# Altium footprint library maxim.PCBLIB: 63 footprints (part 3 of 4)
Each footprint in its own frame and in the unit in brackets; x right, y up, seen from the top. Pads: shape width x height; smd on the part's side, far side on the other; paste and mask are expansions set on the pad; w line width, h text height; cw(c..) or ccw(c..) is an arc to the next point about the centre after c.
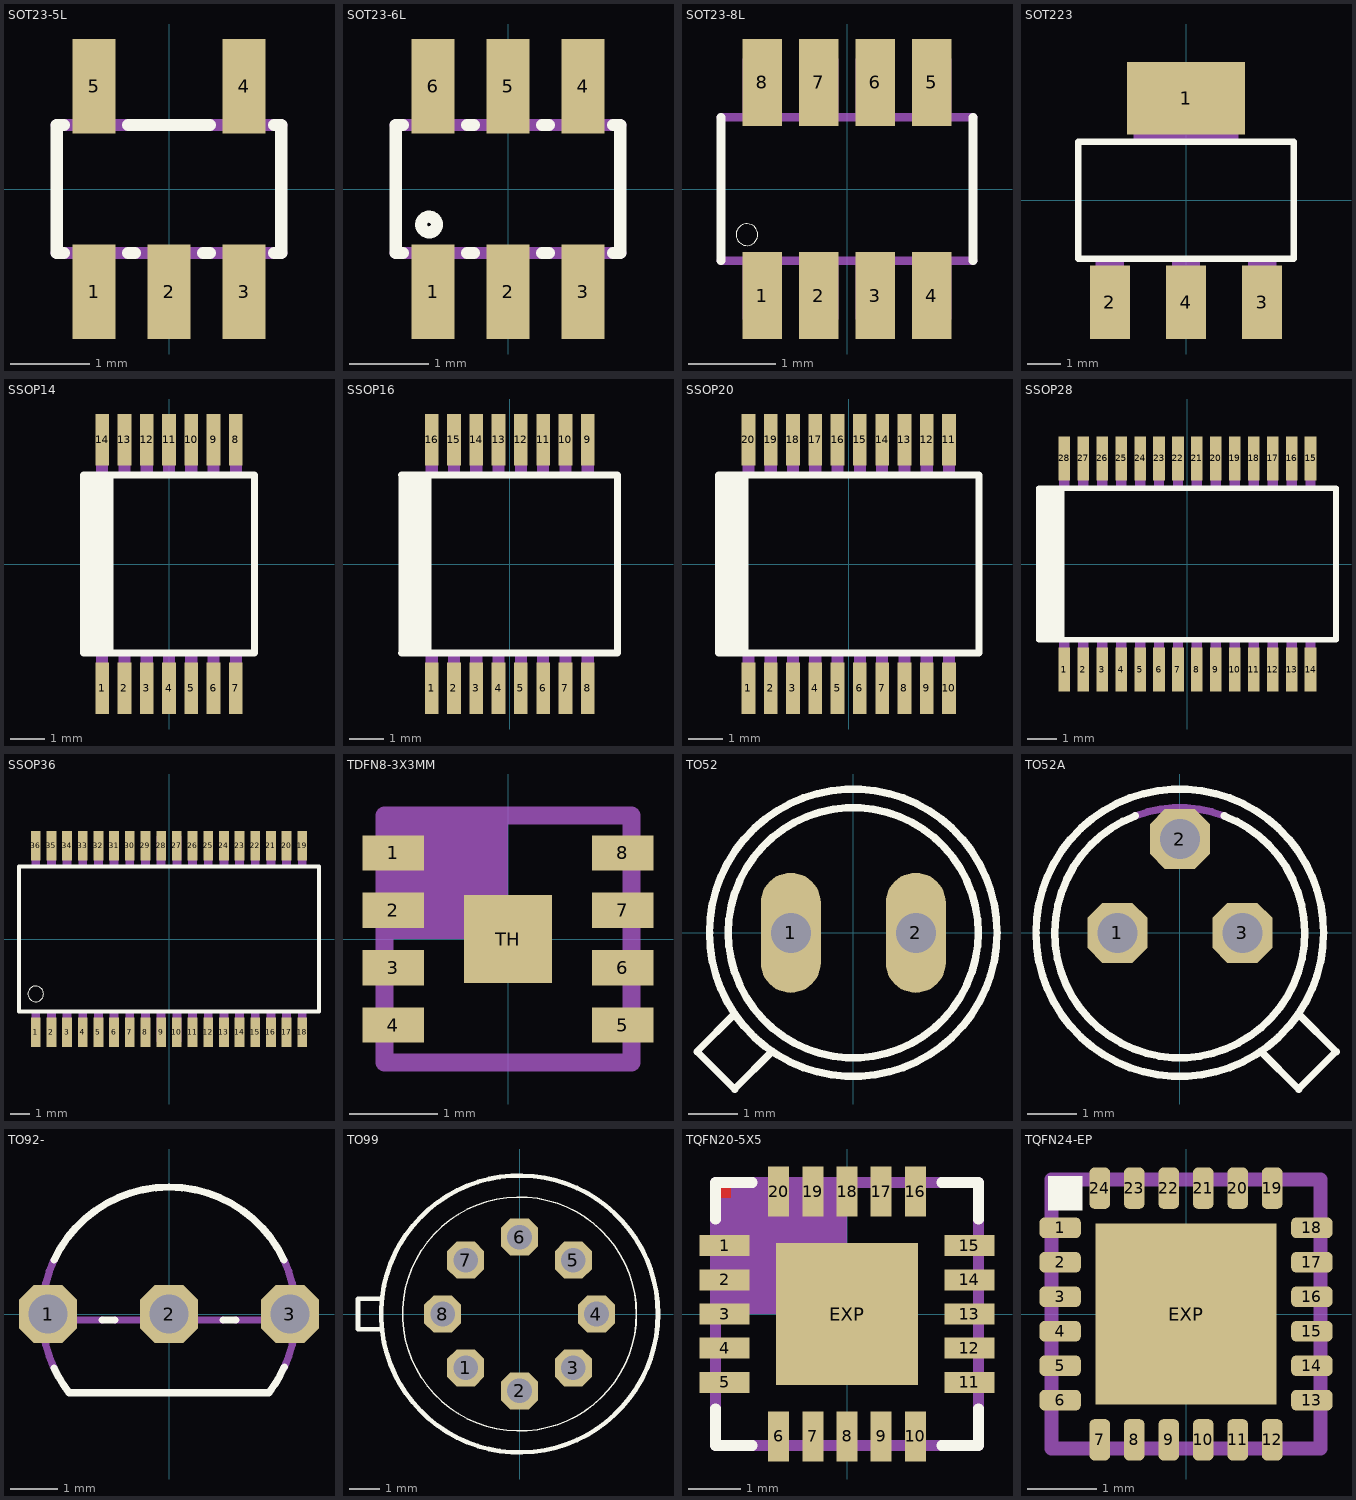
[diagram p2: the footprints below, top view; thin cyan lines are the x and y axes]

## SOT23-5L [mil]
pads (5):
  rect 21.65x47.24 smd: 1(-37.4,-51.18) 2(0,-51.18) 3(37.4,-51.18) 4(37.4,51.18) 5(-37.4,51.18)
Top Overlay:
  lines w6: -52.28,-31.89 -55.98,-31.89 -55.98,31.89 -52.28,31.89 ; -20.55,-31.89 -16.85,-31.89 ; -20.55,31.89 20.55,31.89 ; 16.85,-31.89 20.55,-31.89 ; 52.28,-31.89 55.98,-31.89 55.98,31.89 52.28,31.89
Mechanical 16:
  rectangle: -47.24,-59.06 -27.56,-33.46
  rectangle: -9.84,-59.06 9.84,-33.46
  rectangle: 27.56,-59.06 47.24,-33.46
  rectangle: 27.56,33.46 47.24,59.06
  rectangle: -47.24,33.46 -27.56,59.06
  lines w6: -55.98,-31.89 55.98,-31.89 ; -55.98,31.89 55.98,31.89

## SOT23-6L [mil]
pads (6):
  rect 21.65x47.24 smd: 1(-37.4,-51.18) 2(0,-51.18) 3(37.4,-51.18) 4(37.4,51.18) 5(0,51.18) 6(-37.4,51.18)
Top Overlay:
  circle w6: c-39.37,-17.72 r3.94
  lines w6: -52.28,-31.89 -55.98,-31.89 -55.98,31.89 -52.28,31.89 ; -20.55,-31.89 -16.85,-31.89 ; -20.55,31.89 -16.85,31.89 ; 16.85,-31.89 20.55,-31.89 ; 16.85,31.89 20.55,31.89 ; 52.28,-31.89 55.98,-31.89 55.98,31.89 52.28,31.89
Mechanical 16:
  rectangle: -47.24,-59.06 -27.56,-33.46
  rectangle: -9.84,-59.06 9.84,-33.46
  rectangle: 27.56,-59.06 47.24,-33.46
  rectangle: 27.56,33.46 47.24,59.06
  rectangle: -9.84,33.46 9.84,59.06
  rectangle: -47.24,33.46 -27.56,59.06
  lines w6: -55.98,-31.89 55.98,-31.89 ; -55.98,31.89 55.98,31.89

## SOT23-8L [mm]
pads (8):
  rect 0.45x1 smd: 1(-0.975,-1.225) 2(-0.325,-1.225) 3(0.325,-1.225) 4(0.975,-1.225) 5(0.975,1.225) 6(0.325,1.225) 7(-0.325,1.225) 8(-0.975,1.225)
Top Overlay:
  circle w0: c-1.15,-0.525 r0.125
  lines w0.102: -1.45,-0.825 -1.45,0.825 ; 1.45,-0.825 1.45,0.825
Mechanical 16:
  rectangle: -1.2,-1.5 -0.75,-0.85
  rectangle: -0.55,-1.5 -0.1,-0.85
  rectangle: 0.1,-1.5 0.55,-0.85
  rectangle: 0.75,-1.5 1.2,-0.85
  region: 1.2,1.5 0.75,1.5 0.75,0.85 1.2,0.85
  region: 0.55,1.5 0.1,1.5 0.1,0.85 0.55,0.85
  region: -0.1,1.5 -0.55,1.5 -0.55,0.85 -0.1,0.85
  region: -0.75,1.5 -1.2,1.5 -1.2,0.85 -0.75,0.85
  lines w0.102: -1.45,-0.825 1.45,-0.825 ; -1.45,0.825 1.45,0.825

## SOT223 [mil]
pads (4):
  rect 141.73x86.61 smd: 1(0,122.01)
  rect 47.99x87.99 smd: 2(-90.98,-122.01) 3(90.98,-122.01) 4(0,-122.01)
Top Overlay:
  lines w8: -129.02,-70 129.02,-70 129.02,70 -129.02,70 -129.02,-70
Mechanical 16:
  rectangle: -63,71 63,144
  rectangle: -17,-144 17,-71
  rectangle: -108,-144 -74,-71
  rectangle: 74,-144 108,-71
  rectangle: -63,71 63,144
  rectangle: -17,-144 17,-71
  rectangle: -108,-144 -74,-71
  rectangle: 74,-144 108,-71

## SSOP14 [mm]
pads (14):
  rect 0.4x1.5 smd: 1(-1.95,-3.625) 2(-1.3,-3.625) 3(-0.65,-3.625) 4(0,-3.625) 5(0.65,-3.625) 6(1.3,-3.625) 7(1.95,-3.625) 8(1.95,3.625) 9(1.3,3.625) 10(0.65,3.625) 11(0,3.625) 12(-0.65,3.625) 13(-1.3,3.625) 14(-1.95,3.625)
Top Overlay:
  rectangle: -2.6,-2.6 -1.625,2.6
  lines w0.203: -2.5,-2.6 2.5,-2.6 2.5,2.6 -2.5,2.6
Mechanical 16:
  rectangle: -2.128,-3.937 -1.772,-2.642
  rectangle: -1.478,-3.937 -1.122,-2.642
  rectangle: -0.828,-3.937 -0.472,-2.642
  rectangle: -0.178,-3.937 0.178,-2.642
  rectangle: 0.472,-3.937 0.828,-2.642
  rectangle: 1.122,-3.937 1.478,-2.642
  rectangle: 1.772,-3.937 2.128,-2.642
  rectangle: 1.772,2.642 2.128,3.937
  rectangle: 1.122,2.642 1.478,3.937
  rectangle: 0.472,2.642 0.828,3.937
  rectangle: -0.178,2.642 0.178,3.937
  rectangle: -0.828,2.642 -0.472,3.937
  rectangle: -1.478,2.642 -1.122,3.937
  rectangle: -2.128,2.642 -1.772,3.937

## SSOP16 [mil]
pads (16):
  rect 15.75x59.06 smd: 1(-89.57,-142.72) 2(-63.98,-142.72) 3(-38.39,-142.72) 4(-12.8,-142.72) 5(12.8,-142.72) 6(38.39,-142.72) 7(63.98,-142.72) 8(89.57,-142.72) 9(89.57,142.72) 10(63.98,142.72) 11(38.39,142.72) 12(12.8,142.72) 13(-12.8,142.72) 14(-38.39,142.72) 15(-63.98,142.72) 16(-89.57,142.72)
Top Overlay:
  rectangle: -127.95,-102.36 -89.57,102.36
  lines w8: -124.02,-102.36 124.02,-102.36 124.02,102.36 -124.02,102.36
Mechanical 16:
  rectangle: -96.57,-155 -82.57,-104
  rectangle: -70.98,-155 -56.98,-104
  rectangle: -45.39,-155 -31.39,-104
  rectangle: -19.8,-155 -5.8,-104
  rectangle: 5.79,-155 19.79,-104
  rectangle: 31.38,-155 45.38,-104
  rectangle: 56.97,-155 70.97,-104
  rectangle: 82.57,-155 96.57,-104
  rectangle: 82.56,104 96.56,155
  rectangle: 56.97,104 70.97,155
  rectangle: 31.38,104 45.38,155
  rectangle: 5.79,104 19.79,155
  rectangle: -19.8,104 -5.8,155
  rectangle: -45.39,104 -31.39,155
  rectangle: -70.98,104 -56.98,155
  rectangle: -96.56,104 -82.56,155

## SSOP20 [mil]
pads (20):
  rect 15.75x59.06 smd: 1(-115.16,-142.72) 2(-89.57,-142.72) 3(-63.98,-142.72) 4(-38.39,-142.72) 5(-12.8,-142.72) 6(12.8,-142.72) 7(38.39,-142.72) 8(63.98,-142.72) 9(89.57,-142.72) 10(115.16,-142.72) 11(115.16,142.72) 12(89.57,142.72) 13(63.98,142.72) 14(38.39,142.72) 15(12.8,142.72) 16(-12.8,142.72) 17(-38.39,142.72) 18(-63.98,142.72) 19(-89.57,142.72) 20(-115.16,142.72)
Top Overlay:
  rectangle: -153.54,-102.36 -115.16,102.36
  lines w8: -149.61,-102.36 149.61,-102.36 149.61,102.36 -149.61,102.36
Mechanical 16:
  rectangle: -122.16,-155 -108.16,-104
  rectangle: -96.57,-155 -82.57,-104
  rectangle: -70.98,-155 -56.98,-104
  rectangle: -45.39,-155 -31.39,-104
  rectangle: -19.8,-155 -5.8,-104
  rectangle: 5.79,-155 19.79,-104
  rectangle: 31.38,-155 45.38,-104
  rectangle: 56.98,-155 70.98,-104
  rectangle: 82.57,-155 96.57,-104
  rectangle: 108.16,-155 122.16,-104
  rectangle: 108.15,104 122.15,155
  rectangle: 82.56,104 96.56,155
  rectangle: 56.97,104 70.97,155
  rectangle: 31.39,104 45.39,155
  rectangle: 5.8,104 19.8,155
  rectangle: -19.79,104 -5.79,155
  rectangle: -45.38,104 -31.38,155
  rectangle: -70.97,104 -56.97,155
  rectangle: -96.56,104 -82.56,155
  rectangle: -122.15,104 -108.15,155

## SSOP28 [mil]
pads (28):
  rect 15.75x59.06 smd: 1(-166.34,-142.72) 2(-140.75,-142.72) 3(-115.16,-142.72) 4(-89.57,-142.72) 5(-63.98,-142.72) 6(-38.39,-142.72) 7(-12.8,-142.72) 8(12.8,-142.72) 9(38.39,-142.72) 10(63.98,-142.72) 11(89.57,-142.72) 12(115.16,-142.72) 13(140.75,-142.72) 14(166.34,-142.72) 15(166.34,142.72) 16(140.75,142.72) 17(115.16,142.72) 18(89.57,142.72) 19(63.98,142.72) 20(38.39,142.72) 21(12.8,142.72) 22(-12.8,142.72) 23(-38.39,142.72) 24(-63.98,142.72) 25(-89.57,142.72) 26(-115.16,142.72) 27(-140.75,142.72) 28(-166.34,142.72)
Top Overlay:
  rectangle: -204.72,-102.36 -166.34,102.36
  lines w8: -200.79,-102.36 200.79,-102.36 200.79,102.36 -200.79,102.36
Mechanical 16:
  rectangle: -173.34,-155 -159.34,-104
  rectangle: -147.75,-155 -133.75,-104
  rectangle: -122.16,-155 -108.16,-104
  rectangle: -96.57,-155 -82.57,-104
  rectangle: -70.98,-155 -56.98,-104
  rectangle: -45.39,-155 -31.39,-104
  rectangle: -19.8,-155 -5.8,-104
  rectangle: 5.8,-155 19.8,-104
  rectangle: 31.39,-155 45.39,-104
  rectangle: 56.98,-155 70.98,-104
  rectangle: 82.57,-155 96.57,-104
  rectangle: 108.16,-155 122.16,-104
  rectangle: 133.75,-155 147.75,-104
  rectangle: 159.34,-155 173.34,-104
  rectangle: 159.34,104 173.34,155
  rectangle: 133.75,104 147.75,155
  rectangle: 108.16,104 122.16,155
  rectangle: 82.57,104 96.57,155
  rectangle: 56.98,104 70.98,155
  rectangle: 31.39,104 45.39,155
  rectangle: 5.8,104 19.8,155
  rectangle: -19.8,104 -5.8,155
  rectangle: -45.39,104 -31.39,155
  rectangle: -70.98,104 -56.98,155
  rectangle: -96.57,104 -82.57,155
  rectangle: -122.16,104 -108.16,155
  rectangle: -147.75,104 -133.75,155
  rectangle: -173.34,104 -159.34,155

## SSOP36 [mm]
pads (36):
  rect 0.5x1.5 smd: 1(-6.8,-4.75) 2(-6,-4.75) 3(-5.2,-4.75) 4(-4.4,-4.75) 5(-3.6,-4.75) 6(-2.8,-4.75) 7(-2,-4.75) 8(-1.2,-4.75) 9(-0.4,-4.75) 10(0.4,-4.75) 11(1.2,-4.75) 12(2,-4.75) 13(2.8,-4.75) 14(3.6,-4.75) 15(4.4,-4.75) 16(5.2,-4.75) 17(6,-4.75) 18(6.8,-4.75) 19(6.8,4.75) 20(6,4.75) 21(5.2,4.75) 22(4.4,4.75) 23(3.6,4.75) 24(2.8,4.75) 25(2,4.75) 26(1.2,4.75) 27(0.4,4.75) 28(-0.4,4.75) 29(-1.2,4.75) 30(-2,4.75) 31(-2.8,4.75) 32(-3.6,4.75) 33(-4.4,4.75) 34(-5.2,4.75) 35(-6,4.75) 36(-6.8,4.75)
Top Overlay:
  circle w0: c-6.8,-2.8 r0.4
  lines w0.203: -7.65,-3.7 7.65,-3.7 7.65,3.7 -7.65,3.7 -7.65,-3.7
Mechanical 16:
  rectangle: -7.025,-5.25 -6.575,-3.775
  rectangle: -6.225,-5.25 -5.775,-3.775
  rectangle: -5.425,-5.25 -4.975,-3.775
  rectangle: -4.625,-5.25 -4.175,-3.775
  rectangle: -3.825,-5.25 -3.375,-3.775
  rectangle: -3.025,-5.25 -2.575,-3.775
  rectangle: -2.225,-5.25 -1.775,-3.775
  rectangle: -1.425,-5.25 -0.975,-3.775
  rectangle: -0.625,-5.25 -0.175,-3.775
  rectangle: 0.175,-5.25 0.625,-3.775
  rectangle: 0.975,-5.25 1.425,-3.775
  rectangle: 1.775,-5.25 2.225,-3.775
  rectangle: 2.575,-5.25 3.025,-3.775
  rectangle: 3.375,-5.25 3.825,-3.775
  rectangle: 4.175,-5.25 4.625,-3.775
  rectangle: 4.975,-5.25 5.425,-3.775
  rectangle: 5.775,-5.25 6.225,-3.775
  rectangle: 6.575,-5.25 7.025,-3.775
  region: 7.025,5.25 6.575,5.25 6.575,3.775 7.025,3.775
  region: 6.225,5.25 5.775,5.25 5.775,3.775 6.225,3.775
  region: 5.425,5.25 4.975,5.25 4.975,3.775 5.425,3.775
  region: 4.625,5.25 4.175,5.25 4.175,3.775 4.625,3.775
  region: 3.825,5.25 3.375,5.25 3.375,3.775 3.825,3.775
  region: 3.025,5.25 2.575,5.25 2.575,3.775 3.025,3.775
  region: 2.225,5.25 1.775,5.25 1.775,3.775 2.225,3.775
  region: 1.425,5.25 0.975,5.25 0.975,3.775 1.425,3.775
  region: 0.625,5.25 0.175,5.25 0.175,3.775 0.625,3.775
  region: -0.175,5.25 -0.625,5.25 -0.625,3.775 -0.175,3.775
  region: -0.975,5.25 -1.425,5.25 -1.425,3.775 -0.975,3.775
  region: -1.775,5.25 -2.225,5.25 -2.225,3.775 -1.775,3.775
  region: -2.575,5.25 -3.025,5.25 -3.025,3.775 -2.575,3.775
  region: -3.375,5.25 -3.825,5.25 -3.825,3.775 -3.375,3.775
  region: -4.175,5.25 -4.625,5.25 -4.625,3.775 -4.175,3.775
  region: -4.975,5.25 -5.425,5.25 -5.425,3.775 -4.975,3.775
  region: -5.775,5.25 -6.225,5.25 -6.225,3.775 -5.775,3.775
  region: -6.575,5.25 -7.025,5.25 -7.025,3.775 -6.575,3.775

## TDFN8-3X3MM [mm]
pads (9):
  rect 0.7x0.4 smd: 1(-1.3,0.975) 2(-1.3,0.325) 3(-1.3,-0.325) 4(-1.3,-0.975) 5(1.3,-0.975) 6(1.3,-0.325) 7(1.3,0.325) 8(1.3,0.975)
  rect 1x1 smd: TH(0,0)
Top Layer:
  region: 0,0 0.254,0 0.254,0.254 0,0.254
Top Paste:
  rectangle: -1.5,0.825 -1.1,1.125
  rectangle: -1.5,0.175 -1.1,0.475
  rectangle: -1.5,-0.475 -1.1,-0.175
  rectangle: -1.5,-1.125 -1.1,-0.825
  region: 1.5,-0.825 1.1,-0.825 1.1,-1.125 1.5,-1.125
  region: 1.5,-0.175 1.1,-0.175 1.1,-0.475 1.5,-0.475
  region: 1.5,0.475 1.1,0.475 1.1,0.175 1.5,0.175
  region: 1.5,1.125 1.1,1.125 1.1,0.825 1.5,0.825
Top Solder:
  rectangle: -1.7,0.75 -0.9,1.2
  rectangle: -1.7,0.1 -0.9,0.55
  rectangle: -1.7,-0.55 -0.9,-0.1
  rectangle: -1.7,-1.2 -0.9,-0.75
  region: 1.7,-0.75 0.9,-0.75 0.9,-1.2 1.7,-1.2
  region: 1.7,-0.1 0.9,-0.1 0.9,-0.55 1.7,-0.55
  region: 1.7,0.55 0.9,0.55 0.9,0.1 1.7,0.1
  region: 1.7,1.2 0.9,1.2 0.9,0.75 1.7,0.75
  region: 0,0 0.254,0 0.254,0.254 0,0.254
Mechanical 16:
  rectangle: -1.4,0 0,1.4
  lines w0.203: -1.4,-1.4 1.4,-1.4 1.4,1.4 -1.4,1.4 -1.4,-1.4

## TO52 [mil]
pads (2):
  oval 48x96 hole 32: 1(-50,0) 2(50,0)
Top Overlay:
  circle w6: c0,0 r115
  circle w6: c0,0 r100
  lines w6: -94.92,-64.92 -125,-95 -95,-125 -64.92,-94.92

## TO52A [mil]
pads (3):
  oct 48x48 hole 32: 1(-50,0) 2(0,75) 3(50,0)
Top Overlay:
  circle w6: c0,0 r115
  lines w6: -35.46,93.5 ccw(c0,0.01) 35.46,93.5 ; 64.92,-94.92 95,-125 125,-95 94.92,-64.92
Mechanical 16:
  lines w6: -35.46,93.5 cw(c0,0.01) 35.46,93.5

## TO92- [mil]
pads (3):
  oct 48x48 hole 32: 1(-100,0) 2(0,0) 3(100,0)
Top Overlay:
  lines w6: -95.02,-44.72 ccw(c-0.02,0.01) -82.48,-65 82.48,-65 ccw(c0.01,0) 95.46,-43.77 ; -95,44.72 cw(c0,0) 95,44.72 ; -55.28,-5 -44.72,-5 ; 44.72,-5 55.28,-5
Mechanical 16:
  lines w6: -95,-44.72 cw(c0,0) -104.88,-5 ; -95,44.72 ccw(c0,0) -104.88,-5 ; -55.28,-5 -104.88,-5 ; -44.72,-5 44.72,-5 ; 55.28,-5 104.88,-5 ; 95,-44.72 ccw(c0,0) 104.88,-5 ; 95,44.72 cw(c0,0) 104.88,-5

## TO99 [mil]
pads (8):
  oct 48x48 hole 32: 1(-70,-70) 2(0,-100) 3(70,-70) 4(100,0) 5(70,70) 6(0,100) 7(-70,70) 8(-100,0)
Top Overlay:
  circle w6: c0,0 r180
  circle w2: c0,0 r152
  lines w6: -180,-20 -210,-20 -210,20 -180,20

## TQFN20-5X5 [mm]
pads (21):
  rect 0.95x0.4 smd: 1(-2.325,1.3) 2(-2.325,0.65) 3(-2.325,0) 4(-2.325,-0.65) 5(-2.325,-1.3) 11(2.325,-1.3) 12(2.325,-0.65) 13(2.325,0) 14(2.325,0.65) 15(2.325,1.3)
  rect 0.4x0.95 smd: 6(-1.3,-2.325) 7(-0.65,-2.325) 8(0,-2.325) 9(0.65,-2.325) 10(1.3,-2.325) 16(1.3,2.325) 17(0.65,2.325) 18(0,2.325) 19(-0.65,2.325) 20(-1.3,2.325)
  rect 2.7x2.7 smd: EXP(0,0)
Top Layer:
  rectangle: -2.4,2.2 -2.2,2.4
Top Overlay:
  lines w0.203: -2.5,-1.8 -2.5,-2.5 -1.8,-2.5 ; -2.5,1.8 -2.5,2.5 -1.8,2.5 ; 1.8,-2.5 2.5,-2.5 2.5,-1.8 ; 1.8,2.5 2.5,2.5 2.5,1.8
Top Paste:
  rectangle: -2.775,1.125 -1.875,1.475
  rectangle: -2.775,0.475 -1.875,0.825
  rectangle: -2.775,-0.175 -1.875,0.175
  rectangle: -2.775,-0.825 -1.875,-0.475
  rectangle: -2.775,-1.475 -1.875,-1.125
  region: -1.125,-2.775 -1.125,-1.875 -1.475,-1.875 -1.475,-2.775
  region: -0.475,-2.775 -0.475,-1.875 -0.825,-1.875 -0.825,-2.775
  region: 0.175,-2.775 0.175,-1.875 -0.175,-1.875 -0.175,-2.775
  region: 0.825,-2.775 0.825,-1.875 0.475,-1.875 0.475,-2.775
  region: 1.475,-2.775 1.475,-1.875 1.125,-1.875 1.125,-2.775
  region: 2.775,-1.125 1.875,-1.125 1.875,-1.475 2.775,-1.475
  region: 2.775,-0.475 1.875,-0.475 1.875,-0.825 2.775,-0.825
  region: 2.775,0.175 1.875,0.175 1.875,-0.175 2.775,-0.175
  region: 2.775,0.825 1.875,0.825 1.875,0.475 2.775,0.475
  region: 2.775,1.475 1.875,1.475 1.875,1.125 2.775,1.125
  region: 1.125,2.775 1.125,1.875 1.475,1.875 1.475,2.775
  region: 0.475,2.775 0.475,1.875 0.825,1.875 0.825,2.775
  region: -0.175,2.775 -0.175,1.875 0.175,1.875 0.175,2.775
  region: -0.825,2.775 -0.825,1.875 -0.475,1.875 -0.475,2.775
  region: -1.475,2.775 -1.475,1.875 -1.125,1.875 -1.125,2.775
  rectangle: -1.25,0.25 -0.25,1.25
  rectangle: 0.25,0.25 1.25,1.25
  rectangle: 0.25,-1.25 1.25,-0.25
  rectangle: -1.25,-1.25 -0.25,-0.25
Top Solder:
  rectangle: -2.85,1.05 -1.8,1.55
  rectangle: -2.85,0.4 -1.8,0.9
  rectangle: -2.85,-0.25 -1.8,0.25
  rectangle: -2.85,-0.9 -1.8,-0.4
  rectangle: -2.85,-1.55 -1.8,-1.05
  region: -1.05,-2.85 -1.05,-1.8 -1.55,-1.8 -1.55,-2.85
  region: -0.4,-2.85 -0.4,-1.8 -0.9,-1.8 -0.9,-2.85
  region: 0.25,-2.85 0.25,-1.8 -0.25,-1.8 -0.25,-2.85
  region: 0.9,-2.85 0.9,-1.8 0.4,-1.8 0.4,-2.85
  region: 1.55,-2.85 1.55,-1.8 1.05,-1.8 1.05,-2.85
  region: 2.85,-1.05 1.8,-1.05 1.8,-1.55 2.85,-1.55
  region: 2.85,-0.4 1.8,-0.4 1.8,-0.9 2.85,-0.9
  region: 2.85,0.25 1.8,0.25 1.8,-0.25 2.85,-0.25
  region: 2.85,0.9 1.8,0.9 1.8,0.4 2.85,0.4
  region: 2.85,1.55 1.8,1.55 1.8,1.05 2.85,1.05
  region: 1.05,2.85 1.05,1.8 1.55,1.8 1.55,2.85
  region: 0.4,2.85 0.4,1.8 0.9,1.8 0.9,2.85
  region: -0.25,2.85 -0.25,1.8 0.25,1.8 0.25,2.85
  region: -0.9,2.85 -0.9,1.8 -0.4,1.8 -0.4,2.85
  region: -1.55,2.85 -1.55,1.8 -1.05,1.8 -1.05,2.85
  region: 0,0 0.254,0 0.254,0.254 0,0.254
Mechanical 16:
  rectangle: -2.5,0 0,2.5
  lines w0.203: -2.5,-2.5 2.5,-2.5 2.5,2.5 -2.5,2.5 -2.5,-2.5

## TQFN24-EP [mm]
pads (25):
  rrect50% 0.6x0.3 smd: 1(-1.825,1.25) 2(-1.825,0.75) 3(-1.825,0.25) 4(-1.825,-0.25) 5(-1.825,-0.75) 6(-1.825,-1.25) 13(1.825,-1.25) 14(1.825,-0.75) 15(1.825,-0.25) 16(1.825,0.25) 17(1.825,0.75) 18(1.825,1.25)
  rrect50% 0.3x0.6 smd: 7(-1.25,-1.825) 8(-0.75,-1.825) 9(-0.25,-1.825) 10(0.25,-1.825) 11(0.75,-1.825) 12(1.25,-1.825) 19(1.25,1.825) 20(0.75,1.825) 21(0.25,1.825) 22(-0.25,1.825) 23(-0.75,1.825) 24(-1.25,1.825)
  rect 2.63x2.63 smd: EXP(0,0)
Top Overlay:
  rectangle: -2,1.5 -1.5,2
Top Paste:
  rectangle: -2.1,1.125 -1.55,1.375
  rectangle: -1.15,-1.175 1.15,1.2
  rectangle: -2.1,0.625 -1.55,0.875
  rectangle: -2.1,0.125 -1.55,0.375
  rectangle: -2.1,-0.375 -1.55,-0.125
  rectangle: -2.1,-0.875 -1.55,-0.625
  rectangle: -2.1,-1.375 -1.55,-1.125
  region: -1.125,-2.1 -1.125,-1.55 -1.375,-1.55 -1.375,-2.1
  region: -0.625,-2.1 -0.625,-1.55 -0.875,-1.55 -0.875,-2.1
  region: -0.125,-2.1 -0.125,-1.55 -0.375,-1.55 -0.375,-2.1
  region: 0.375,-2.1 0.375,-1.55 0.125,-1.55 0.125,-2.1
  region: 0.875,-2.1 0.875,-1.55 0.625,-1.55 0.625,-2.1
  region: 1.375,-2.1 1.375,-1.55 1.125,-1.55 1.125,-2.1
  region: 2.1,-1.125 1.55,-1.125 1.55,-1.375 2.1,-1.375
  region: 2.1,-0.625 1.55,-0.625 1.55,-0.875 2.1,-0.875
  region: 2.1,-0.125 1.55,-0.125 1.55,-0.375 2.1,-0.375
  region: 2.1,0.375 1.55,0.375 1.55,0.125 2.1,0.125
  region: 2.1,0.875 1.55,0.875 1.55,0.625 2.1,0.625
  region: 2.1,1.375 1.55,1.375 1.55,1.125 2.1,1.125
  region: 1.125,2.1 1.125,1.55 1.375,1.55 1.375,2.1
  region: 0.625,2.1 0.625,1.55 0.875,1.55 0.875,2.1
  region: 0.125,2.1 0.125,1.55 0.375,1.55 0.375,2.1
  region: -0.375,2.1 -0.375,1.55 -0.125,1.55 -0.125,2.1
  region: -0.875,2.1 -0.875,1.55 -0.625,1.55 -0.625,2.1
  region: -1.375,2.1 -1.375,1.55 -1.125,1.55 -1.125,2.1
Top Solder:
  rectangle: -2.175,1.075 -1.525,1.425
  rectangle: -1.35,-1.35 1.35,1.35
  rectangle: -2.175,0.575 -1.525,0.925
  rectangle: -2.175,0.075 -1.525,0.425
  rectangle: -2.175,-0.425 -1.525,-0.075
  rectangle: -2.175,-0.925 -1.525,-0.575
  rectangle: -2.175,-1.425 -1.525,-1.075
  region: -1.075,-2.175 -1.075,-1.525 -1.425,-1.525 -1.425,-2.175
  region: -0.575,-2.175 -0.575,-1.525 -0.925,-1.525 -0.925,-2.175
  region: -0.075,-2.175 -0.075,-1.525 -0.425,-1.525 -0.425,-2.175
  region: 0.425,-2.175 0.425,-1.525 0.075,-1.525 0.075,-2.175
  region: 0.925,-2.175 0.925,-1.525 0.575,-1.525 0.575,-2.175
  region: 1.425,-2.175 1.425,-1.525 1.075,-1.525 1.075,-2.175
  region: 2.175,-1.075 1.525,-1.075 1.525,-1.425 2.175,-1.425
  region: 2.175,-0.575 1.525,-0.575 1.525,-0.925 2.175,-0.925
  region: 2.175,-0.075 1.525,-0.075 1.525,-0.425 2.175,-0.425
  region: 2.175,0.425 1.525,0.425 1.525,0.075 2.175,0.075
  region: 2.175,0.925 1.525,0.925 1.525,0.575 2.175,0.575
  region: 2.175,1.425 1.525,1.425 1.525,1.075 2.175,1.075
  region: 1.075,2.175 1.075,1.525 1.425,1.525 1.425,2.175
  region: 0.575,2.175 0.575,1.525 0.925,1.525 0.925,2.175
  region: 0.075,2.175 0.075,1.525 0.425,1.525 0.425,2.175
  region: -0.425,2.175 -0.425,1.525 -0.075,1.525 -0.075,2.175
  region: -0.925,2.175 -0.925,1.525 -0.575,1.525 -0.575,2.175
  region: -1.425,2.175 -1.425,1.525 -1.075,1.525 -1.075,2.175
Mechanical 16:
  rectangle: -2,1.125 -1.575,1.375
  rectangle: -2,0.625 -1.575,0.875
  rectangle: -2,0.125 -1.575,0.375
  rectangle: -2,-0.375 -1.575,-0.125
  rectangle: -2,-0.875 -1.575,-0.625
  rectangle: -2,-1.375 -1.575,-1.125
  region: -1.125,-2 -1.125,-1.575 -1.375,-1.575 -1.375,-2
  region: -0.625,-2 -0.625,-1.575 -0.875,-1.575 -0.875,-2
  region: -0.125,-2 -0.125,-1.575 -0.375,-1.575 -0.375,-2
  region: 0.375,-2 0.375,-1.575 0.125,-1.575 0.125,-2
  region: 0.875,-2 0.875,-1.575 0.625,-1.575 0.625,-2
  region: 1.375,-2 1.375,-1.575 1.125,-1.575 1.125,-2
  region: 2,-1.125 1.575,-1.125 1.575,-1.375 2,-1.375
  region: 2,-0.625 1.575,-0.625 1.575,-0.875 2,-0.875
  region: 2,-0.125 1.575,-0.125 1.575,-0.375 2,-0.375
  region: 2,0.375 1.575,0.375 1.575,0.125 2,0.125
  region: 2,0.875 1.575,0.875 1.575,0.625 2,0.625
  region: 2,1.375 1.575,1.375 1.575,1.125 2,1.125
  region: 1.125,2 1.125,1.575 1.375,1.575 1.375,2
  region: 0.625,2 0.625,1.575 0.875,1.575 0.875,2
  region: 0.125,2 0.125,1.575 0.375,1.575 0.375,2
  region: -0.375,2 -0.375,1.575 -0.125,1.575 -0.125,2
  region: -0.875,2 -0.875,1.575 -0.625,1.575 -0.625,2
  region: -1.375,2 -1.375,1.575 -1.125,1.575 -1.125,2
  lines w0.203: -1.95,-1.95 1.95,-1.95 1.95,1.95 -1.95,1.95 -1.95,-1.95